# Altium footprint library LQFP64_10X10X16.PcbLib: 1 footprints
Each footprint in its own frame and in the unit in brackets; x right, y up, seen from the top. Pads: shape width x height; smd on the part's side, far side on the other; paste and mask are expansions set on the pad; w line width, h text height; cw(c..) or ccw(c..) is an arc to the next point about the centre after c.
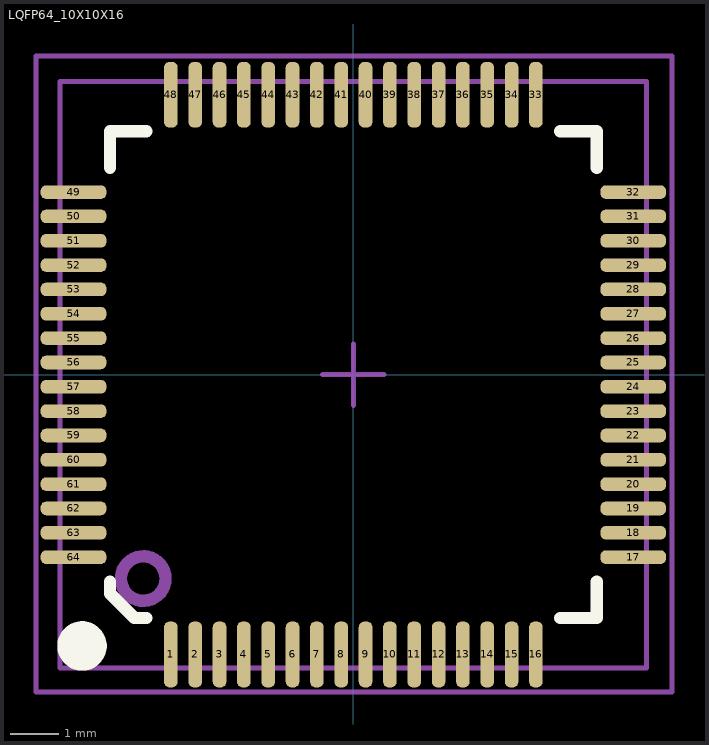
[diagram p0: the footprint, top view; thin cyan lines are the x and y axes]

## LQFP64_10X10X16 [mm]
pads (64):
  rrect80% 0.28x1.35 smd mask+0.05: 1(-3.75,-5.75) 2(-3.25,-5.75) 3(-2.75,-5.75) 4(-2.25,-5.75) 5(-1.75,-5.75) 6(-1.25,-5.75) 7(-0.75,-5.75) 8(-0.25,-5.75) 9(0.25,-5.75) 10(0.75,-5.75) 11(1.25,-5.75) 12(1.75,-5.75) 13(2.25,-5.75) 14(2.75,-5.75) 15(3.25,-5.75) 16(3.75,-5.75) 33(3.75,5.75) 34(3.25,5.75) 35(2.75,5.75) 36(2.25,5.75) 37(1.75,5.75) 38(1.25,5.75) 39(0.75,5.75) 40(0.25,5.75) 41(-0.25,5.75) 42(-0.75,5.75) 43(-1.25,5.75) 44(-1.75,5.75) 45(-2.25,5.75) 46(-2.75,5.75) 47(-3.25,5.75) 48(-3.75,5.75)
  rrect80% 1.35x0.28 smd mask+0.05: 17(5.75,-3.75) 18(5.75,-3.25) 19(5.75,-2.75) 20(5.75,-2.25) 21(5.75,-1.75) 22(5.75,-1.25) 23(5.75,-0.75) 24(5.75,-0.25) 25(5.75,0.25) 26(5.75,0.75) 27(5.75,1.25) 28(5.75,1.75) 29(5.75,2.25) 30(5.75,2.75) 31(5.75,3.25) 32(5.75,3.75) 49(-5.75,3.75) 50(-5.75,3.25) 51(-5.75,2.75) 52(-5.75,2.25) 53(-5.75,1.75) 54(-5.75,1.25) 55(-5.75,0.75) 56(-5.75,0.25) 57(-5.75,-0.25) 58(-5.75,-0.75) 59(-5.75,-1.25) 60(-5.75,-1.75) 61(-5.75,-2.25) 62(-5.75,-2.75) 63(-5.75,-3.25) 64(-5.75,-3.75)
Top Overlay:
  circle w0.508: c-5.575,-5.575 r0.254
  lines w0.254: -5,-4.25 -5,-4.5 -4.5,-5 -4.25,-5 ; -5,4.25 -5,5 -4.25,5 ; 4.25,-5 5,-5 5,-4.25 ; 4.25,5 5,5 5,4.25
Top Assembly:
  circle w0.254: c-4.318,-4.191 r0.458
  lines w0.1: -6.025,-6.025 6.025,-6.025 6.025,6.025 -6.025,6.025 -6.025,-6.025
Top Courtyard:
  lines w0.1: -0.635,0 0.635,0 ; 0,-0.635 0,0.635 ; -6.525,-6.525 6.55,-6.525 6.55,6.55 -6.525,6.55 -6.525,-6.525
3D body "User Library-LQFP64-1.step": height 1.55, standoff -0.01, extent -6,-6 6,6